# Altium schematic symbol library TPS61322.SchLib: 1 symbol
Pins are listed as number, name and electrical type; pins without a type are passive.

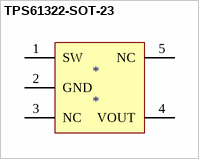
[diagram p0: symbol TPS61322-SOT-23]

## TPS61322-SOT-23
designator *
footprint TPS61322-SOT-23
pins: 1 SW, 2 GND, 3 NC, 4 VOUT, 5 NC